# EAGLE library part ACS711 (library ACS711_ameter)
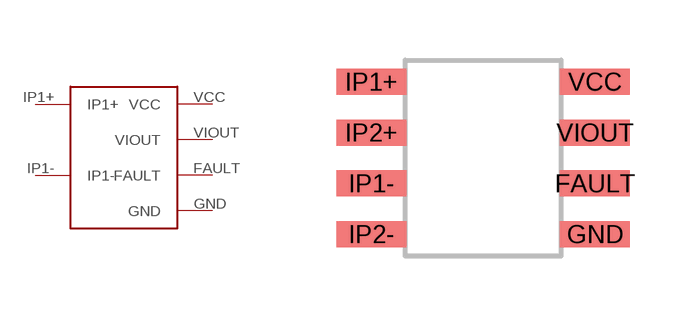
[diagram p0: symbol with the pads of ACS711; footprint ACS711]

Designator prefix -

## ACS711  [ACS711]
FAULT  FAULT
GND  GND
IP1+  IP1+
IP1-  IP1-
VCC  VCC
VIOUT  VIOUT

## Footprint ACS711 (pad centres in mm)
smd 1.75 x 0.65: FAULT 2.8,-0.635; GND 2.8,-1.905; IP1+ -2.8,1.905; IP1- -2.8,-0.635; IP2+ -2.8,0.635; IP2- -2.8,-1.905; VCC 2.8,1.905; VIOUT 2.8,0.635